# Altium integrated library LIB2022 - ICs.IntLib: 43 symbols
Pins are listed as number, name and electrical type; pins without a type are passive.

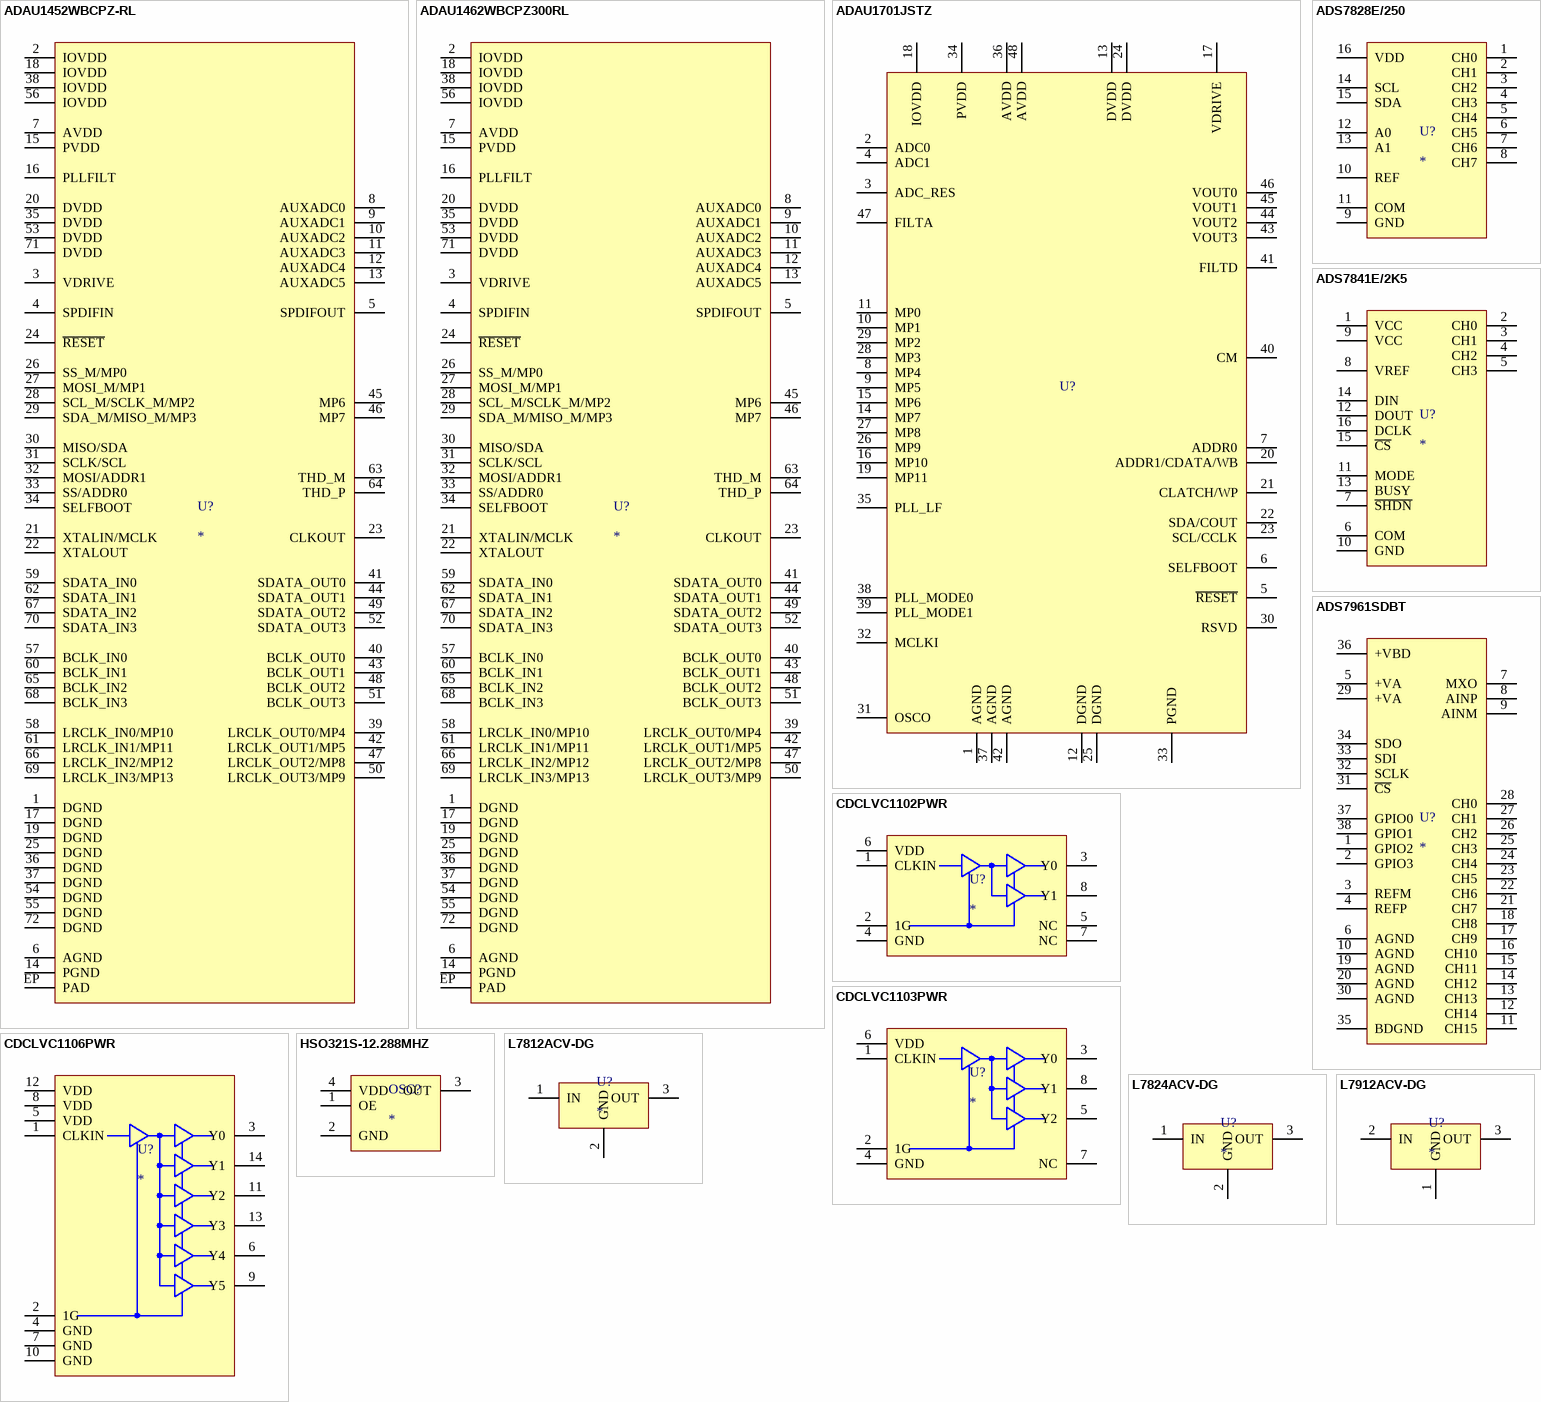
[diagram p0: symbols ADAU1452WBCPZ-RL to L7912ACV-DG]

## ADAU1452WBCPZ-RL
designator U?
SigmaDSP 294.912 MHz, 32-bit Audio Processor; JLCPart: C462188
footprint LFCSP-VQ-72
pins: 1 DGND, 2 IOVDD, 3 VDRIVE, 4 SPDIFIN, 5 SPDIFOUT, 6 AGND, 7 AVDD, 8 AUXADC0, 9 AUXADC1, 10 AUXADC2, 11 AUXADC3, 12 AUXADC4, 13 AUXADC5, 14 PGND, 15 PVDD, 16 PLLFILT, 17 DGND, 18 IOVDD, 19 DGND, 20 DVDD, 21 XTALIN/MCLK, 22 XTALOUT, 23 CLKOUT, 24 ~{RESET}, 25 DGND, 26 SS_M/MP0, 27 MOSI_M/MP1, 28 SCL_M/SCLK_M/MP2, 29 SDA_M/MISO_M/MP3, 30 MISO/SDA, 31 SCLK/SCL, 32 MOSI/ADDR1, 33 SS/ADDR0, 34 SELFBOOT, 35 DVDD, 36 DGND, 37 DGND, 38 IOVDD, 39 LRCLK_OUT0/MP4, 40 BCLK_OUT0, 41 SDATA_OUT0, 42 LRCLK_OUT1/MP5, 43 BCLK_OUT1, 44 SDATA_OUT1, 45 MP6, 46 MP7, 47 LRCLK_OUT2/MP8, 48 BCLK_OUT2, 49 SDATA_OUT2, 50 LRCLK_OUT3/MP9, 51 BCLK_OUT3, 52 SDATA_OUT3, 53 DVDD, 54 DGND, 55 DGND, 56 IOVDD, 57 BCLK_IN0, 58 LRCLK_IN0/MP10, 59 SDATA_IN0, 60 BCLK_IN1, 61 LRCLK_IN1/MP11, 62 SDATA_IN1, 63 THD_M, 64 THD_P, 65 BCLK_IN2, 66 LRCLK_IN2/MP12, 67 SDATA_IN2, 68 BCLK_IN3, 69 LRCLK_IN3/MP13, 70 SDATA_IN3, 71 DVDD, 72 DGND, EP PAD

## ADAU1462WBCPZ300RL
designator U?
SigmaDSP 294.912 MHz, 32-bit Audio Processor; JLCPart: C654408
footprint LFCSP-VQ-72
pins: 1 DGND, 2 IOVDD, 3 VDRIVE, 4 SPDIFIN, 5 SPDIFOUT, 6 AGND, 7 AVDD, 8 AUXADC0, 9 AUXADC1, 10 AUXADC2, 11 AUXADC3, 12 AUXADC4, 13 AUXADC5, 14 PGND, 15 PVDD, 16 PLLFILT, 17 DGND, 18 IOVDD, 19 DGND, 20 DVDD, 21 XTALIN/MCLK, 22 XTALOUT, 23 CLKOUT, 24 ~{RESET}, 25 DGND, 26 SS_M/MP0, 27 MOSI_M/MP1, 28 SCL_M/SCLK_M/MP2, 29 SDA_M/MISO_M/MP3, 30 MISO/SDA, 31 SCLK/SCL, 32 MOSI/ADDR1, 33 SS/ADDR0, 34 SELFBOOT, 35 DVDD, 36 DGND, 37 DGND, 38 IOVDD, 39 LRCLK_OUT0/MP4, 40 BCLK_OUT0, 41 SDATA_OUT0, 42 LRCLK_OUT1/MP5, 43 BCLK_OUT1, 44 SDATA_OUT1, 45 MP6, 46 MP7, 47 LRCLK_OUT2/MP8, 48 BCLK_OUT2, 49 SDATA_OUT2, 50 LRCLK_OUT3/MP9, 51 BCLK_OUT3, 52 SDATA_OUT3, 53 DVDD, 54 DGND, 55 DGND, 56 IOVDD, 57 BCLK_IN0, 58 LRCLK_IN0/MP10, 59 SDATA_IN0, 60 BCLK_IN1, 61 LRCLK_IN1/MP11, 62 SDATA_IN1, 63 THD_M, 64 THD_P, 65 BCLK_IN2, 66 LRCLK_IN2/MP12, 67 SDATA_IN2, 68 BCLK_IN3, 69 LRCLK_IN3/MP13, 70 SDATA_IN3, 71 DVDD, 72 DGND, EP PAD

## ADAU1701JSTZ
designator U?
SigmaDSP 28-/56-Bit Audio Processor with Two ADCs and Four DACs
footprint LQFP-48 - ST-48
pins: 1 AGND, 2 ADC0, 3 ADC_RES, 4 ADC1, 5 ~{RESET}, 6 SELFBOOT, 7 ADDR0, 8 MP4, 9 MP5, 10 MP1, 11 MP0, 12 DGND, 13 DVDD, 14 MP7, 15 MP6, 16 MP10, 17 VDRIVE, 18 IOVDD, 19 MP11, 20 ADDR1/CDATA/WB, 21 CLATCH/WP, 22 SDA/COUT, 23 SCL/CCLK, 24 DVDD, 25 DGND, 26 MP9, 27 MP8, 28 MP3, 29 MP2, 30 RSVD, 31 OSCO, 32 MCLKI, 33 PGND, 34 PVDD, 35 PLL_LF, 36 AVDD, 37 AGND, 38 PLL_MODE0, 39 PLL_MODE1, 40 CM, 41 FILTD, 42 AGND, 43 VOUT3, 44 VOUT2, 45 VOUT1, 46 VOUT0, 47 FILTA, 48 AVDD

## ADS7828E/250
designator U?
12 Bit Analog to Digital Converter 8 Input 1 SAR 16-TSSOP; Digikey_PN: 296-12402-1-ND; JLCPart: C701648
footprint TI-TSSOP-16-PW0016A
pins: 1 CH0, 2 CH1, 3 CH2, 4 CH3, 5 CH4, 6 CH5, 7 CH6, 8 CH7, 9 GND, 10 REF, 11 COM, 12 A0, 13 A1, 14 SCL, 15 SDA, 16 VDD

## ADS7841E/2K5
designator U?
12 Bit Analog to Digital Converter 4 Input 1 SAR 16-SSOP; JLCPart: C41778; Digikey_PN: 296-25900-1-ND
footprint TI-SSOP-16 - DBQ0016A
pins: 1 VCC, 2 CH0, 3 CH1, 4 CH2, 5 CH3, 6 COM, 7 ~{SHDN}, 8 VREF, 9 VCC, 10 GND, 11 MODE, 12 DOUT, 13 BUSY, 14 DIN, 15 ~{CS}, 16 DCLK

## ADS7961SDBT
designator U?
8 Bit Analog to Digital Converter 16 Input 1 SAR 38-TSSOP; Digikey_PN: 296-23513-5-ND; JLCPart: C1542578
footprint ADS7961SDBT
pins: 1 GPIO2, 2 GPIO3, 3 REFM, 4 REFP, 5 +VA, 6 AGND, 7 MXO, 8 AINP, 9 AINM, 10 AGND, 11 CH15, 12 CH14, 13 CH13, 14 CH12, 15 CH11, 16 CH10, 17 CH9, 18 CH8, 19 AGND, 20 AGND, 21 CH7, 22 CH6, 23 CH5, 24 CH4, 25 CH3, 26 CH2, 27 CH1, 28 CH0, 29 +VA, 30 AGND, 31 ~{CS}, 32 SCLK, 33 SDI, 34 SDO, 35 BDGND, 36 +VBD, 37 GPIO0, 38 GPIO1

## CDCLVC1102PWR
designator U?
LVCMOS High-Performance Clock Buffer 2-Output
footprint TI-TSSOP-8-PW0008A
pins: 1 CLKIN, 2 1G, 3 Y0, 4 GND, 5 NC, 6 VDD, 7 NC, 8 Y1

## CDCLVC1103PWR
designator U?
LVCMOS High-Performance Clock Buffer 3-Output; JLCPart: C555453
footprint TI-TSSOP-8-PW0008A
pins: 1 CLKIN, 2 1G, 3 Y0, 4 GND, 5 Y2, 6 VDD, 7 NC, 8 Y1

## CDCLVC1106PWR
designator U?
LVCMOS High-Performance Clock Buffer 6-Output
footprint TI-TSSOP-14-PW0014A
pins: 1 CLKIN, 2 1G, 3 Y0, 4 GND, 5 VDD, 6 Y4, 7 GND, 8 VDD, 9 Y5, 10 GND, 11 Y2, 12 VDD, 13 Y3, 14 Y1

## HSO321S-12.288MHZ
designator OSC?
footprint SMD3225-4P
pins: 1 OE, 2 GND, 3 OUT, 4 VDD

## L7812ACV-DG
designator U?
footprint TO-220 - DG
footprint TO-220 - DG - RA
pins: 1 IN, 2 GND, 3 OUT

## L7824ACV-DG
designator U?
footprint TO-220 - DG
footprint TO-220 - DG - RA
pins: 1 IN, 2 GND, 3 OUT

## L7912ACV-DG
designator U?
footprint TO-220 - DG
footprint TO-220 - DG - RA
pins: 1 GND, 2 IN, 3 OUT

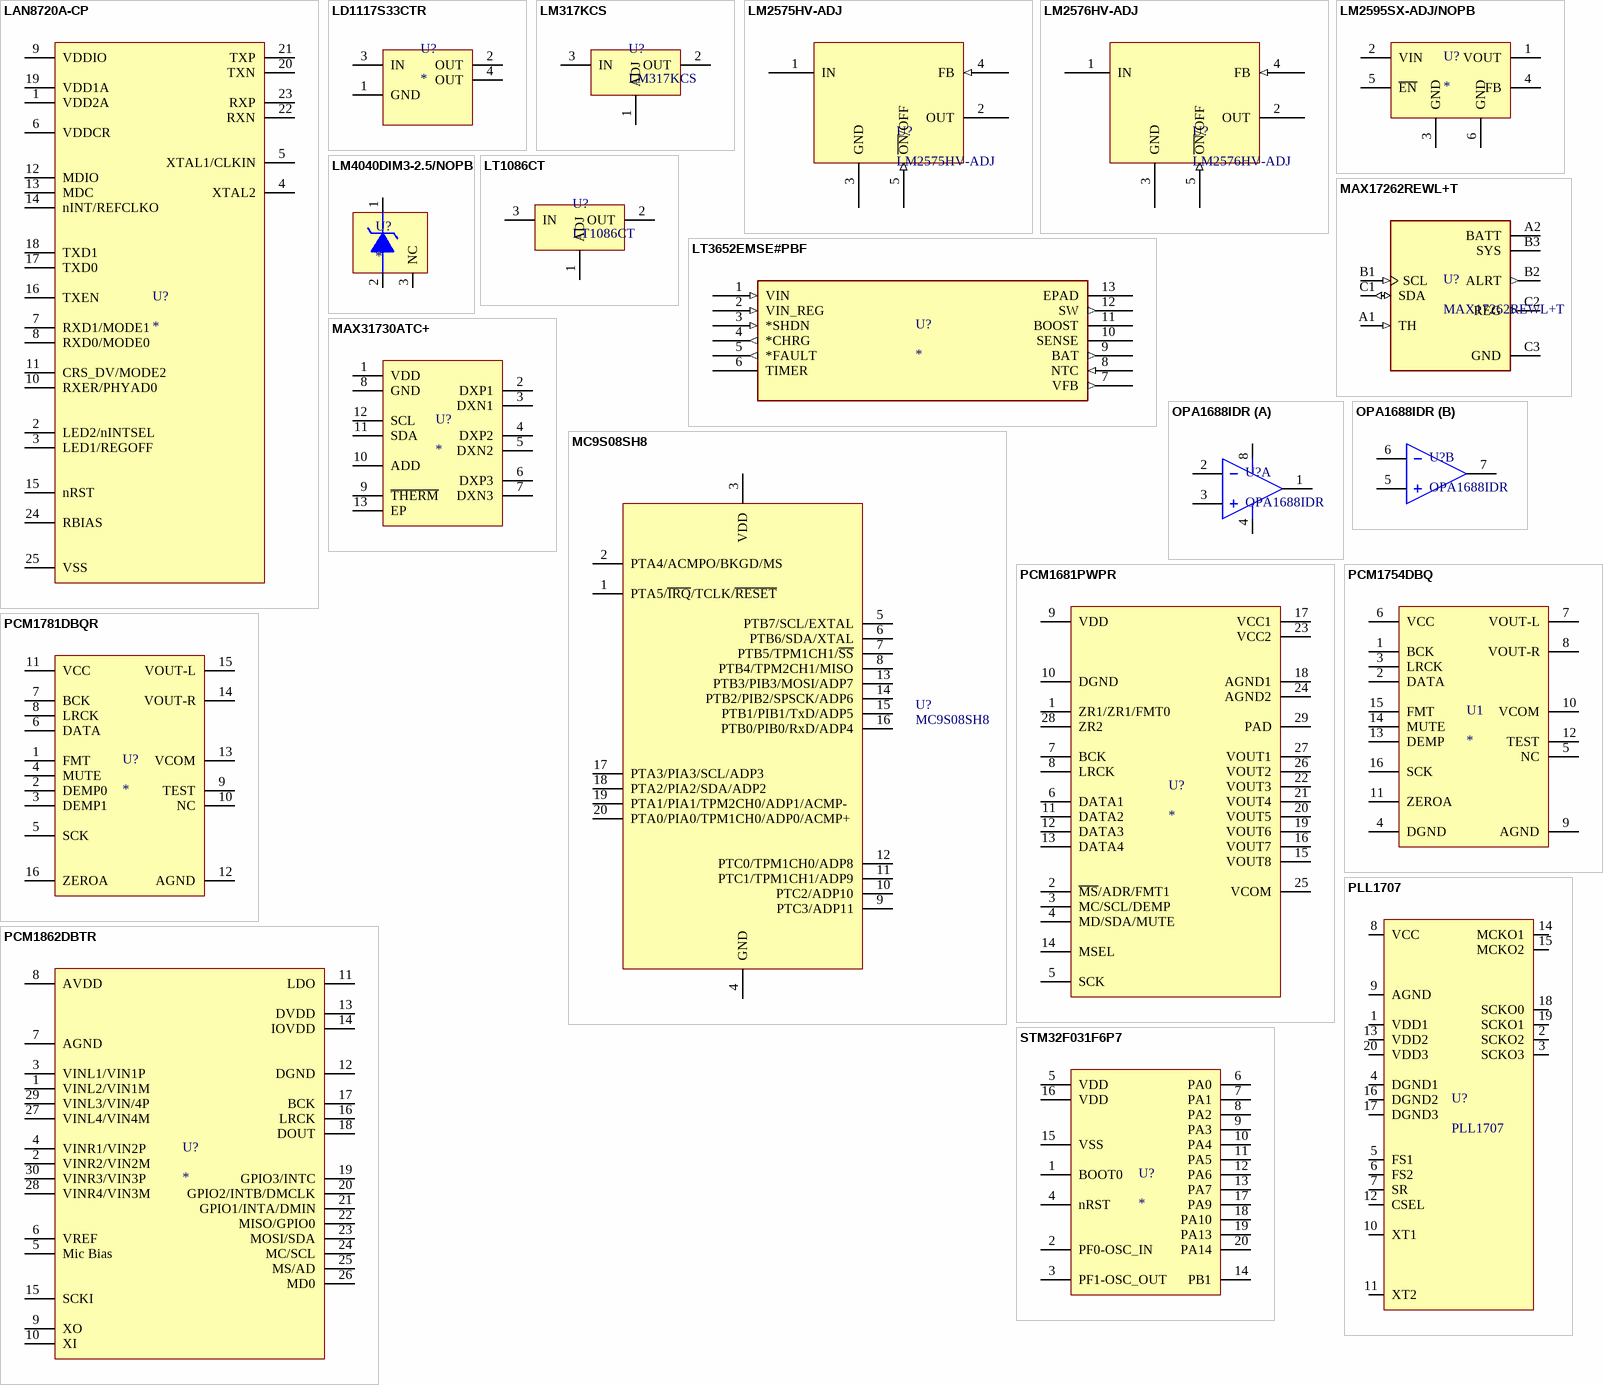
[diagram p1: symbols LAN8720A-CP to STM32F031F6P7]

## LAN8720A-CP
designator U?
JLCPart: C633282
footprint MC 24-QFN-PUNCH
pins: 1 VDD2A, 2 LED2/nINTSEL, 3 LED1/REGOFF, 4 XTAL2, 5 XTAL1/CLKIN, 6 VDDCR, 7 RXD1/MODE1, 8 RXD0/MODE0, 9 VDDIO, 10 RXER/PHYAD0, 11 CRS_DV/MODE2, 12 MDIO, 13 MDC, 14 nINT/REFCLKO, 15 nRST, 16 TXEN, 17 TXD0, 18 TXD1, 19 VDD1A, 20 TXN, 21 TXP, 22 RXN, 23 RXP, 24 RBIAS, 25 VSS

## LD1117S33CTR
designator U?
Linear Voltage Regulator IC 3V3 Positive Fixed 1 Output 800mA SOT-223; Digikey_PN: 497-1241-1-ND; JLCPart: C35879
footprint SOT223-ST
pins: 1 GND, 2 OUT, 3 IN, 4 OUT

## LM317KCS
designator U?
footprint TO-220 - KCS0003B
footprint TO-220 - KCS0003B - RA
pins: 1 ADJ, 2 OUT, 3 IN

## LM2575HV-ADJ
designator U?
Buck Switching Regulator IC Positive Adjustable 1.23V 1 Output 1A TO-220-5
footprint TO-220-5-V
pins: 1 IN (power), 2 OUT (power), 3 GND (power), 4 FB (in), 5 ~{ON}/OFF (in)

## LM2576HV-ADJ
designator U?
Buck Switching Regulator IC Positive Adjustable 1.23V 1 Output 3A TO-220-5
footprint TO-220-5-V
pins: 1 IN (power), 2 OUT (power), 3 GND (power), 4 FB (in), 5 ~{ON}/OFF (in)

## LM2595SX-ADJ/NOPB
designator U?
Buck Switching Regulator IC Positive Adjustable 1.2V 1 Output 1A TO-263-6, D2PAK; JLCPart: C181391; Digikey_PN: LM2595SX-ADJ/NOPBCT-ND
footprint TI-TO-263-KTT
pins: 1 VOUT, 2 VIN, 3 GND, 4 FB, 5 ~{EN}, 6 GND

## LM4040DIM3-2.5/NOPB
designator U?
Shunt Voltage Reference IC Fixed 2.5V V ±1% 15 mA SOT-23-3; Digikey_PN: LM4040DIM3-2.5/NOPBCT-ND; JLCPart: C460725
footprint TI-SOT-23-3-DBZ0003A
pins: 1, 2, 3 NC

## LT1086CT
designator U?
footprint TO-220 - KCS0003B
footprint TO-220 - KCS0003B - RA
pins: 1 ADJ, 2 OUT, 3 IN

## LT3652EMSE#PBF
designator U?
Power Tracking 2A Battery Charger for Solar Power
footprint LT3652EMSE#PBF
pins: 1 VIN (in), 2 VIN_REG (in), 3 *SHDN (in), 4 *CHRG (out), 5 *FAULT (out), 6 TIMER, 7 VFB (out), 8 NTC (in), 9 BAT (out), 10 SENSE, 11 BOOST, 12 SW (out), 13 EPAD

## MAX17262REWL+T
designator U?
Battery Fuel Gauge IC LiFePO4/Li-ion 9-WLP (1.47x1.45)
footprint AD 9-WLP
pins: A1 TH (in), A2 BATT (power), B1 SCL (in), B2 ALRT (out), B3 SYS (power), C1 SDA (io), C2 REG (out), C3 GND (power)

## MAX31730ATC+
designator U?
Temperature Sensor Digital, Local/Remote 11 b 12-TDFN (3x3)
footprint MAX31730ATC+
pins: 1 VDD, 2 DXP1, 3 DXN1, 4 DXP2, 5 DXN2, 6 DXP3, 7 DXN3, 8 GND, 9 ~{THERM}, 10 ADD, 11 SDA, 12 SCL, 13 EP

## MC9S08SH8
designator U?
IC MCU 8BIT 8K FLASH 20-DIP
footprint DIP20
pins: 1 PTA5/~{IRQ}/TCLK/~{RESET}, 2 PTA4/ACMPO/BKGD/MS, 3 VDD, 4 GND, 5 PTB7/SCL/EXTAL, 6 PTB6/SDA/XTAL, 7 PTB5/TPM1CH1/~{SS}, 8 PTB4/TPM2CH1/MISO, 9 PTC3/ADP11, 10 PTC2/ADP10, 11 PTC1/TPM1CH1/ADP9, 12 PTC0/TPM1CH0/ADP8, 13 PTB3/PIB3/MOSI/ADP7, 14 PTB2/PIB2/SPSCK/ADP6, 15 PTB1/PIB1/TxD/ADP5, 16 PTB0/PIB0/RxD/ADP4, 17 PTA3/PIA3/SCL/ADP3, 18 PTA2/PIA2/SDA/ADP2, 19 PTA1/PIA1/TPM2CH0/ADP1/ACMP-, 20 PTA0/PIA0/TPM1CH0/ADP0/ACMP+

## OPA1688IDR
designator U?
Rail-To-Rail Amplifier 2 Circuit - 8-SOIC; JLCPart: C206212
footprint TI-SOIC-8
part A pins: 1 1OUT, 2 1IN-, 3 1IN+, 4 GND, 8 VDD (power)
part B pins: 5 2IN+, 6 2IN-, 7 2OUT

## PCM1681PWPR
designator U?
DAC, Audio 24 b 192k DSP, I2S 28-HTSSOP
footprint PCM1681PWPR (PWP(R-PDSO-G28))
pins: 1 ZR1/ZR1/FMT0, 2 ~{MS}/ADR/FMT1, 3 MC/SCL/DEMP, 4 MD/SDA/MUTE, 5 SCK, 6 DATA1, 7 BCK, 8 LRCK, 9 VDD, 10 DGND, 11 DATA2, 12 DATA3, 13 DATA4, 14 MSEL, 15 VOUT8, 16 VOUT7, 17 VCC1, 18 AGND1, 19 VOUT6, 20 VOUT5, 21 VOUT4, 22 VOUT3, 23 VCC2, 24 AGND2, 25 VCOM, 26 VOUT2, 27 VOUT1, 28 ZR2, 29 PAD

## PCM1754DBQ
designator U1
DAC, Audio 24 b 200k I2S 16-SSOP
footprint TI-SSOP-16 - DBQ0016A
pins: 1 BCK, 2 DATA, 3 LRCK, 4 DGND, 5 NC, 6 VCC, 7 VOUT-L, 8 VOUT-R, 9 AGND, 10 VCOM, 11 ZEROA, 12 TEST, 13 DEMP, 14 MUTE, 15 FMT, 16 SCK

## PCM1781DBQR
designator U?
DAC, Audio 24 b 192k DSP, I2S 16-SSOP; JLCPart: C2667281
footprint TI-SSOP-16 - DBQ0016A
pins: 1 FMT, 2 DEMP0, 3 DEMP1, 4 MUTE, 5 SCK, 6 DATA, 7 BCK, 8 LRCK, 9 TEST, 10 NC, 11 VCC, 12 AGND, 13 VCOM, 14 VOUT-R, 15 VOUT-L, 16 ZEROA

## PCM1862DBTR
designator U?
ADC, Audio 24 b 192k I2C, SPI 30-TSSOP
footprint TI-TSSOP-30-DBT0030A
pins: 1 VINL2/VIN1M, 2 VINR2/VIN2M, 3 VINL1/VIN1P, 4 VINR1/VIN2P, 5 Mic Bias, 6 VREF, 7 AGND, 8 AVDD, 9 XO, 10 XI, 11 LDO, 12 DGND, 13 DVDD, 14 IOVDD, 15 SCKI, 16 LRCK, 17 BCK, 18 DOUT, 19 GPIO3/INTC, 20 GPIO2/INTB/DMCLK, 21 GPIO1/INTA/DMIN, 22 MISO/GPIO0, 23 MOSI/SDA, 24 MC/SCL, 25 MS/AD, 26 MD0, 27 VINL4/VIN4M, 28 VINR4/VIN3M, 29 VINL3/VIN/4P, 30 VINR3/VIN3P

## PLL1707
designator U?
Dual PLL Multi-Clock Generator
footprint TI-SSOP-20 - DBQ (R-PDSO-G20)
pins: 1 VDD1, 2 SCKO2, 3 SCKO3, 4 DGND1, 5 FS1, 6 FS2, 7 SR, 8 VCC, 9 AGND, 10 XT1, 11 XT2, 12 CSEL, 13 VDD2, 14 MCKO1, 15 MCKO2, 16 DGND2, 17 DGND3, 18 SCKO0, 19 SCKO1, 20 VDD3

## STM32F031F6P7
designator U?
ARM® Cortex®-M0 STM32F0 Microcontroller IC 32-Bit Single-Core 48MHz 32KB (32K x 8) FLASH 20-TSSOP; JLCPart: C117472
footprint ST-TSSOP-20 - STM32F031F6P7
pins: 1 BOOT0, 2 PF0-OSC_IN, 3 PF1-OSC_OUT, 4 nRST, 5 VDD, 6 PA0, 7 PA1, 8 PA2, 9 PA3, 10 PA4, 11 PA5, 12 PA6, 13 PA7, 14 PB1, 15 VSS, 16 VDD, 17 PA9, 18 PA10, 19 PA13, 20 PA14

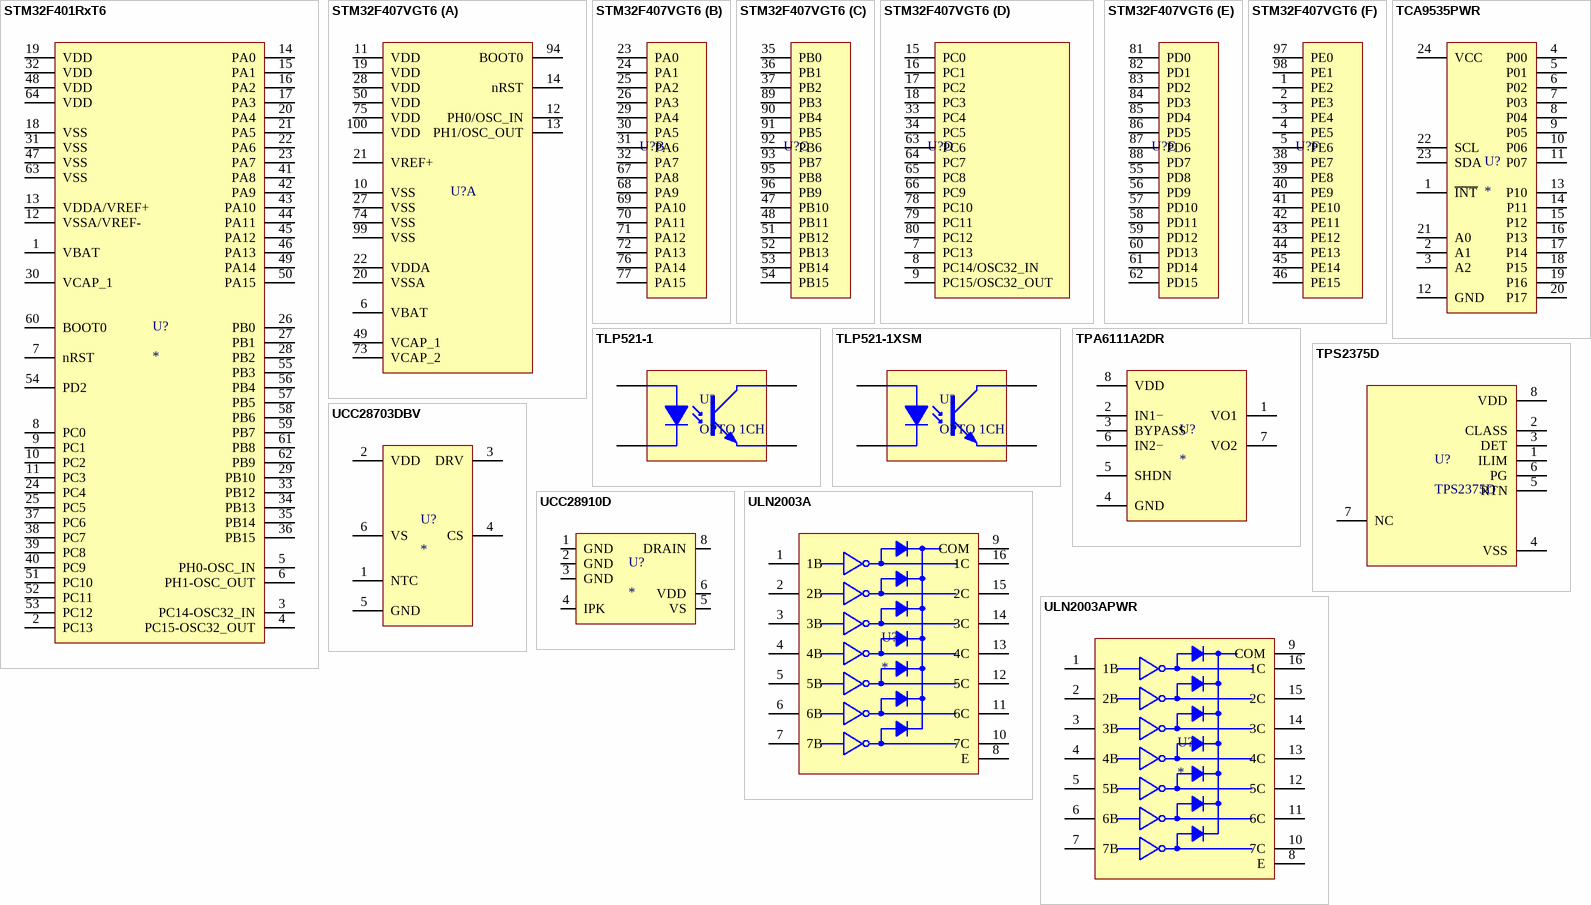
[diagram p2: symbols STM32F401RxT6 to ULN2003APWR]

## STM32F401RxT6
designator U?
footprint LQFP-64
pins: 1 VBAT, 2 PC13, 3 PC14-OSC32_IN, 4 PC15-OSC32_OUT, 5 PH0-OSC_IN, 6 PH1-OSC_OUT, 7 nRST, 8 PC0, 9 PC1, 10 PC2, 11 PC3, 12 VSSA/VREF-, 13 VDDA/VREF+, 14 PA0, 15 PA1, 16 PA2, 17 PA3, 18 VSS, 19 VDD, 20 PA4, 21 PA5, 22 PA6, 23 PA7, 24 PC4, 25 PC5, 26 PB0, 27 PB1, 28 PB2, 29 PB10, 30 VCAP_1, 31 VSS, 32 VDD, 33 PB12, 34 PB13, 35 PB14, 36 PB15, 37 PC6, 38 PC7, 39 PC8, 40 PC9, 41 PA8, 42 PA9, 43 PA10, 44 PA11, 45 PA12, 46 PA13, 47 VSS, 48 VDD, 49 PA14, 50 PA15, 51 PC10, 52 PC11, 53 PC12, 54 PD2, 55 PB3, 56 PB4, 57 PB5, 58 PB6, 59 PB7, 60 BOOT0, 61 PB8, 62 PB9, 63 VSS, 64 VDD

## STM32F407VGT6
designator U?
JLCPart: C12345
footprint LQFP-100
part A pins: 6 VBAT, 10 VSS, 11 VDD, 12 PH0/OSC_IN, 13 PH1/OSC_OUT, 14 nRST, 19 VDD, 20 VSSA, 21 VREF+, 22 VDDA, 27 VSS, 28 VDD, 49 VCAP_1, 50 VDD, 73 VCAP_2, 74 VSS, 75 VDD, 94 BOOT0, 99 VSS, 100 VDD
part B pins: 23 PA0, 24 PA1, 25 PA2, 26 PA3, 29 PA4, 30 PA5, 31 PA6, 32 PA7, 67 PA8, 68 PA9, 69 PA10, 70 PA11, 71 PA12, 72 PA13, 76 PA14, 77 PA15
part C pins: 35 PB0, 36 PB1, 37 PB2, 47 PB10, 48 PB11, 51 PB12, 52 PB13, 53 PB14, 54 PB15, 89 PB3, 90 PB4, 91 PB5, 92 PB6, 93 PB7, 95 PB8, 96 PB9
part D pins: 7 PC13, 8 PC14/OSC32_IN, 9 PC15/OSC32_OUT, 15 PC0, 16 PC1, 17 PC2, 18 PC3, 33 PC4, 34 PC5, 63 PC6, 64 PC7, 65 PC8, 66 PC9, 78 PC10, 79 PC11, 80 PC12
part E pins: 55 PD8, 56 PD9, 57 PD10, 58 PD11, 59 PD12, 60 PD13, 61 PD14, 62 PD15, 81 PD0, 82 PD1, 83 PD2, 84 PD3, 85 PD4, 86 PD5, 87 PD6, 88 PD7
part F pins: 1 PE2, 2 PE3, 3 PE4, 4 PE5, 5 PE6, 38 PE7, 39 PE8, 40 PE9, 41 PE10, 42 PE11, 43 PE12, 44 PE13, 45 PE14, 46 PE15, 97 PE0, 98 PE1

## TCA9535PWR
designator U?
I/O Expander 16 I2C, SMBus 400 kHz 24-TSSOP; Digikey_PN: 296-25129-1-ND; JLCPart: C130204
footprint TI-TSSOP-24-PW0024A
pins: 1 ~{INT}, 2 A1, 3 A2, 4 P00, 5 P01, 6 P02, 7 P03, 8 P04, 9 P05, 10 P06, 11 P07, 12 GND, 13 P10, 14 P11, 15 P12, 16 P13, 17 P14, 18 P15, 19 P16, 20 P17, 21 A0, 22 SCL, 23 SDA, 24 VCC

## TLP521-1
designator U?, comment OPTO 1CH
footprint DIP4
pins: 1 A, 2 K, 3 E, 4 C

## TLP521-1XSM
designator U?, comment OPTO 1CH
footprint SMD-4P
pins: 1 A, 2 K, 3 E, 4 C

## TPA6111A2DR
designator U?
Amplifier IC Headphones, 2-Channel (Stereo) Class AB 8-SOIC; Digikey_PN: 296-10846-1-ND; JLCPart: C497472
footprint TI-SOIC-8-D0008A
pins: 1 VO1, 2 IN1−, 3 BYPASS, 4 GND, 5 SHDN, 6 IN2−, 7 VO2, 8 VDD

## TPS2375D
designator U?
Power Over Ethernet Controller 1 Channel 802.3af (PoE) 8-SOIC; JLCPart: C2872890; Digikey_PN: 296-17061-ND
footprint TI-SOIC-8-D0008A
pins: 1 ILIM, 2 CLASS, 3 DET, 4 VSS, 5 RTN, 6 PG, 7 NC, 8 VDD

## UCC28703DBV
designator U?
footprint TI-SOT-23-DBV0006A
pins: 1 NTC, 2 VDD, 3 DRV, 4 CS, 5 GND, 6 VS

## UCC28910D
designator U?
footprint TI-SOIC-8-D0007A
pins: 1 GND, 2 GND, 3 GND, 4 IPK, 5 VS, 6 VDD, 8 DRAIN

## ULN2003A
designator U?
Power Switch/Driver 1:1 Darlington 500mA 16-DIP; JLCPart: C93000; Digikey_PN: 497-2344-5-ND
footprint DIP16
pins: 1 1B, 2 2B, 3 3B, 4 4B, 5 5B, 6 6B, 7 7B, 8 E, 9 COM, 10 7C, 11 6C, 12 5C, 13 4C, 14 3C, 15 2C, 16 1C

## ULN2003APWR
designator U?
Power Switch/Driver 1:1 Darlington 500mA 16-TSSOP; JLCPart: C126289; Digikey_PN: 296-27173-1-ND
footprint TI-TSSOP-16-PW0016A
pins: 1 1B, 2 2B, 3 3B, 4 4B, 5 5B, 6 6B, 7 7B, 8 E, 9 COM, 10 7C, 11 6C, 12 5C, 13 4C, 14 3C, 15 2C, 16 1C